# Altium integrated library RC0805JR-0710KL.IntLib: 1 symbol
Pins are listed as number, name and electrical type; pins without a type are passive.

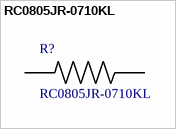
[diagram p0: symbol RC0805JR-0710KL]

## RC0805JR-0710KL
designator R?
/ 10 kOhms Â±5% 0.125W, 1/8W Chip Resistor 0805 _2012 Metric_ Moisture Resistant Thick Film /; MF: Yageo; Package: 2012 Rohm Semiconductor; Digi-Key_Purchase_URL: https://www.digikey.com/product-detail/en/yageo/RC0805JR-0710KL/311-10KARCT-ND/731188?utm_source=snapeda&utm_medium=aggregator&utm_campaign=symbol; MP: RC0805JR-0710KL; Digi-Key_Part_Number: 311-10KARCT-ND; SnapEDA_Link: https://www.snapeda.com/parts/RC0805JR-0710KL/Yageo/view-part/494014/?ref=snap; Value: *
footprint *RESC2012X60N
pins: 1, 2